# EAGLE library part OPA1622 (library OPA1622)
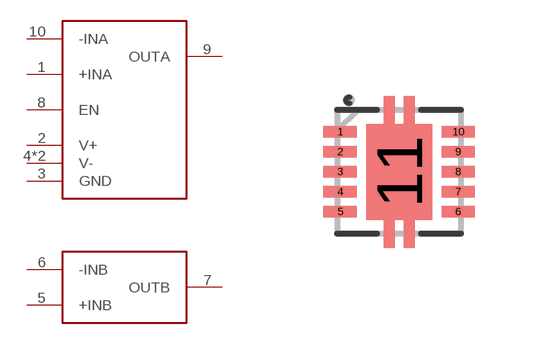
[diagram p0: symbol with the pads of S-PVSON-N10; footprint S-PVSON-N10]

Designator prefix -; gates G$1=OPA1622 G$2=OPA1622-2

## OPA1622  [S-PVSON-N10]
1  G$1:+INA  in
2  G$1:V+  pwr
3  G$1:GND
4  G$1:V-  pwr
5  G$2:+INB  in
6  G$2:-INB  in
7  G$2:OUTB  out
8  G$1:EN
9  G$1:OUTA  out
10  G$1:-INA  in
11  G$1:V-  pwr

## Footprint S-PVSON-N10 (pad centres in mm)
smd 0.85 x 0.28: 1 -1.475,1; 2 -1.475,0.5; 3 -1.475,0; 4 -1.475,-0.5; 5 -1.475,-1; 6 1.475,-1; 7 1.475,-0.5; 8 1.475,0; 9 1.475,0.5; 10 1.475,1
smd 1.65 x 2.4: 11 0,0